# Altium integrated library CC0805KRX5R6BB106.IntLib: 1 symbol
Pins are listed as number, name and electrical type; pins without a type are passive.

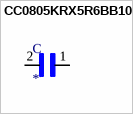
[diagram p0: symbol CC0805KRX5R6BB106]

## CC0805KRX5R6BB106
designator C
Cap Ceramic 10uF 10V X5R 10% SMD 0805 85Â°C Paper T/R; MF: Yageo; MP: CC0805KRX5R6BB106; Availability: Unavailable; Price: None; SnapEDA_Link: https://www.snapeda.com/parts/CC0805KRX5R6BB106/Yageo/view-part/699897/?ref=snap; Package: 0805 Yageo; Value: *
footprint CAPC2012X70
pins: 1, 2